# Altium footprint library IFBpcblib.PcbLib: 127 footprints (part 2 of 8)
Each footprint in its own frame and in the unit in brackets; x right, y up, seen from the top. Pads: shape width x height; smd on the part's side, far side on the other; paste and mask are expansions set on the pad; w line width, h text height; cw(c..) or ccw(c..) is an arc to the next point about the centre after c.
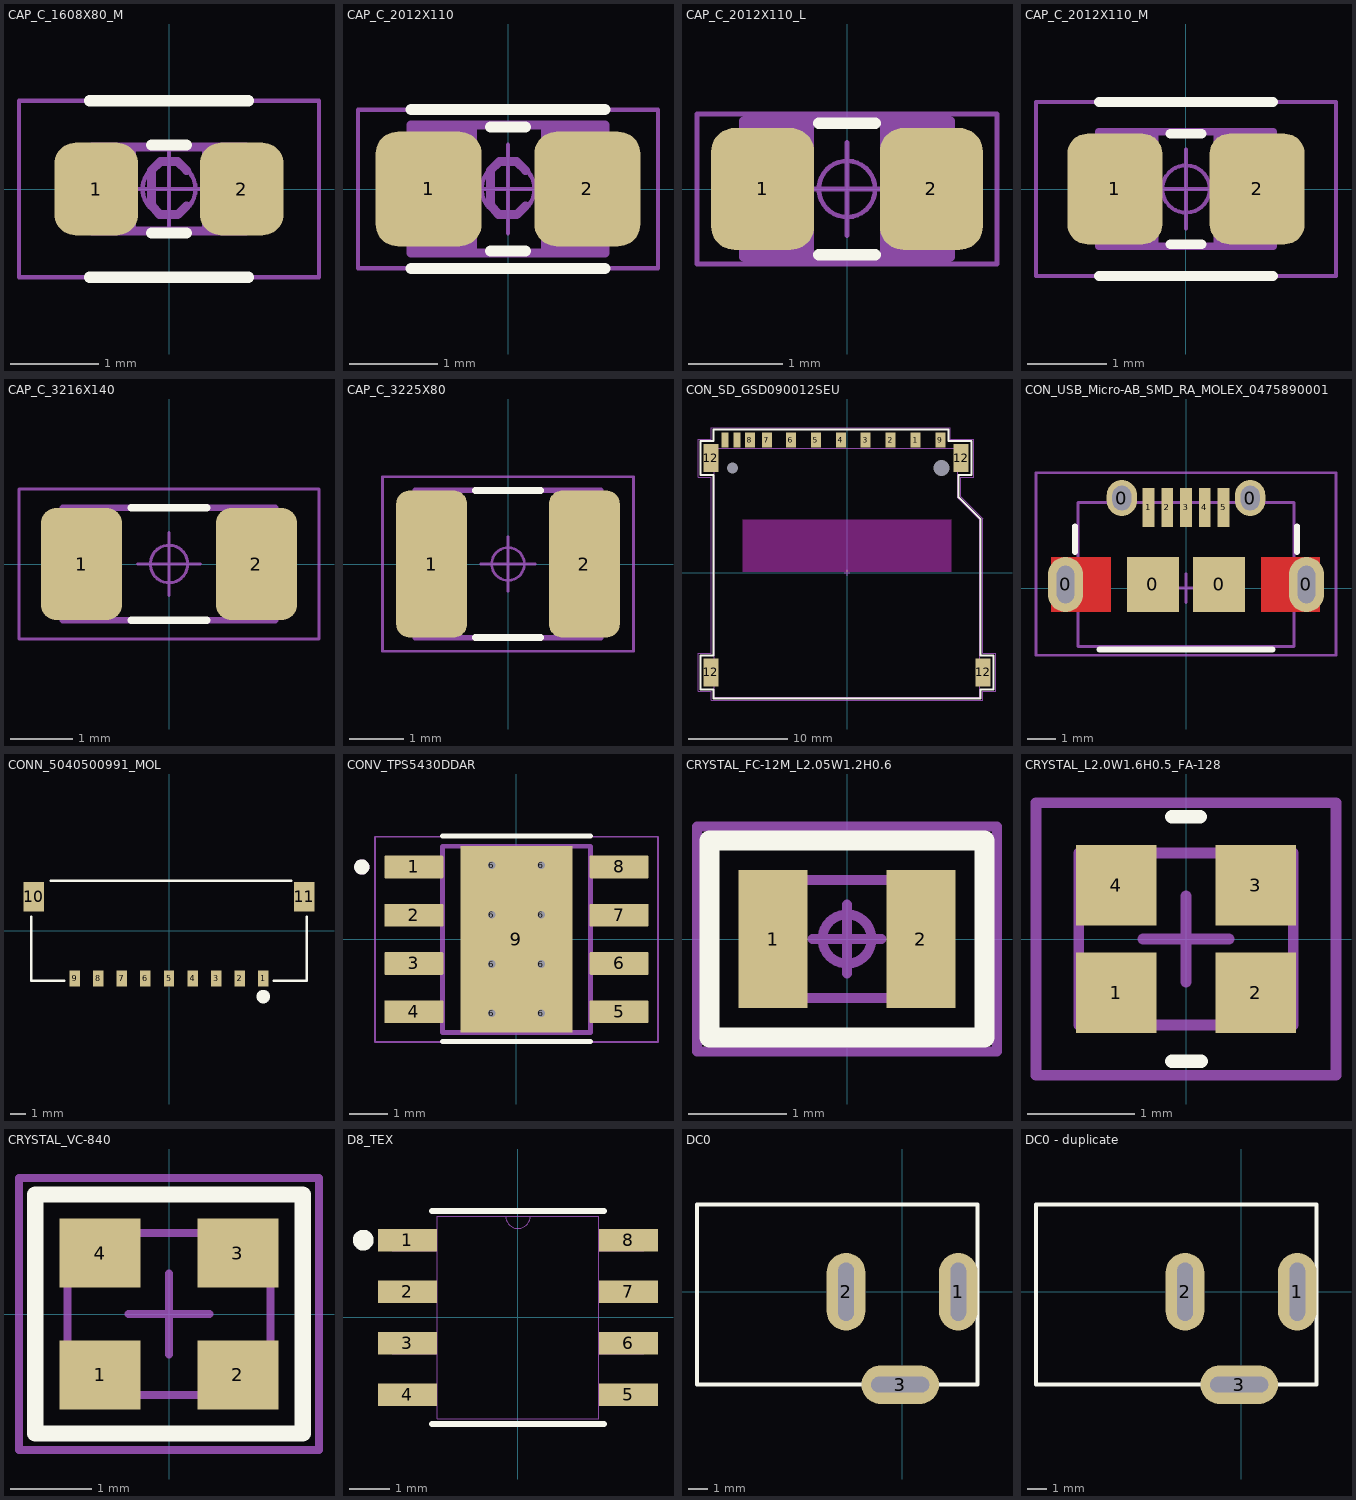
[diagram p1: the footprints below, top view; thin cyan lines are the x and y axes]

## CAP_C_1608X80_M [mm] "Chip Capacitor, 2-Leads, Body 1.60x0.80mm, IPC Low Density"
height 0.85
pads (2):
  rrect50% 0.95x1.05 smd: 1(-0.825,0) 2(0.825,0)
Top Overlay:
  lines w0.125: -0.9,-1 0.9,-1 ; -0.9,1 0.9,1 ; -0.2,-0.5 0.2,-0.5 ; -0.2,0.5 0.2,0.5
Top Assembly:
  lines w0.1: -0.875,-0.475 -0.875,0.475 0.875,0.475 0.875,-0.475 -0.875,-0.475
  text "'.Designator'" at -4.217,-0.663 h1.6
Top Courtyard:
  lines w0.05: -1.7,-1 1.7,-1 1.7,1 -1.7,1 -1.7,-1
  lines w0.1: 0.2,-0.19 0.1,-0.29 -0.11,-0.29 -0.2,-0.18 -0.2,0.21 -0.1,0.31 0.1,0.31 0.2,0.21
Top Component Outline:
  rectangle: 0.375,-0.475 0.875,0.475
  rectangle: -0.875,-0.475 -0.375,0.475
  lines w0.05: -0.875,-0.475 0.875,-0.475 0.875,0.475 -0.875,0.475 -0.875,-0.475
Top Component Center:
  circle w0.05: c0,0 r0.3
  lines w0.05: -0.5,0 0.5,0 ; 0,-0.5 0,0.5
3D body "CAPC1608X80_M.step": height 0.85, standoff 0, extent -0.875,-0.475 0.875,0.475

## CAP_C_2012X110 [mm] "Chip Capacitor, 2-Leads, Body 2.00x1.25mm, IPC High Density"
height 1.1
pads (2):
  rrect41% 1.2x1.3 smd: 1(-0.9,0) 2(0.9,0)
Top Overlay:
  lines w0.125: -1.1,-0.9 1.1,-0.9 ; -1.1,0.9 1.1,0.9 ; -0.2,-0.7 0.2,-0.7 ; -0.2,0.7 0.2,0.7
Top Assembly:
  lines w0.1: -1.1,-0.725 -1.1,0.725 1.1,0.725 1.1,-0.725 -1.1,-0.725
  text "'.Designator'" at -3.952,-0.622 h1.5
Top Courtyard:
  lines w0.05: -1.7,-0.9 1.7,-0.9 1.7,0.9 -1.7,0.9 -1.7,-0.9
  lines w0.1: 0.2,-0.19 0.1,-0.29 -0.11,-0.29 -0.2,-0.18 -0.2,0.21 -0.1,0.31 0.1,0.31 0.2,0.21
Top Component Outline:
  rectangle: 0.375,-0.725 1.125,0.725
  rectangle: -1.1,-0.725 -0.35,0.725
  lines w0.05: -1.1,-0.725 1.1,-0.725 1.1,0.725 -1.1,0.725 -1.1,-0.725
Top Component Center:
  circle w0.05: c0,0 r0.3
  lines w0.05: -0.5,0 0.5,0 ; 0,-0.5 0,0.5
3D body "CAPC2012X110.step": height 1.1, standoff 0, extent -1.1,-0.725 1.1,0.725

## CAP_C_2012X110_L [mm] "Chip Capacitor, 2-Leads, Body 2.00x1.25mm, IPC High Density"
height 1.1
pads (2):
  rrect45% 1.1x1.3 smd: 1(-0.9,0) 2(0.9,0)
Top Overlay:
  lines w0.125: -0.3,-0.7 0.3,-0.7 ; -0.3,0.7 0.3,0.7
Top Assembly:
  lines w0.1: -1.1,-0.725 -1.1,0.725 1.1,0.725 1.1,-0.725 -1.1,-0.725
  text "'.Designator'" at -3.952,-0.622 h1.5
Top Courtyard:
  lines w0.05: -1.6,-0.8 -1.6,0.8 1.6,0.8 1.6,-0.8 -1.6,-0.8
Top Component Outline:
  region: 1.1,0.725 0.35,0.725 0.35,-0.725 1.1,-0.725
  rectangle: -1.1,-0.725 -0.35,0.725
  lines w0.05: -1.1,-0.725 -1.1,0.725 1.1,0.725 1.1,-0.725 -1.1,-0.725
Top Component Center:
  circle w0.05: c0,0 r0.3
  lines w0.05: -0.5,0 0.5,0 ; 0,-0.5 0,0.5
3D body "CAPC2012X110_L.step": height 1.1, standoff 0, extent -1.1,-0.725 1.1,0.725

## CAP_C_2012X110_M [mm] "Chip Capacitor, 2-Leads, Body 2.00x1.25mm, IPC High Density"
height 1.1
pads (2):
  rrect41% 1.2x1.4 smd: 1(-0.9,0) 2(0.9,0)
Top Overlay:
  lines w0.125: -1.1,-1.1 1.1,-1.1 ; -1.1,1.1 1.1,1.1 ; -0.2,-0.7 0.2,-0.7 ; -0.2,0.7 0.2,0.7
Top Assembly:
  lines w0.1: -1.1,-0.725 -1.1,0.725 1.1,0.725 1.1,-0.725 -1.1,-0.725
  text "'.Designator'" at -3.952,-0.622 h1.5
Top Courtyard:
  lines w0.05: -1.9,-1.1 -1.9,1.1 1.9,1.1 1.9,-1.1 -1.9,-1.1
Top Component Outline:
  region: 1.1,0.725 0.35,0.725 0.35,-0.725 1.1,-0.725
  rectangle: -1.1,-0.725 -0.35,0.725
  lines w0.05: -1.1,-0.725 -1.1,0.725 1.1,0.725 1.1,-0.725 -1.1,-0.725
Top Component Center:
  circle w0.05: c0,0 r0.3
  lines w0.05: -0.5,0 0.5,0 ; 0,-0.5 0,0.5
3D body "CAPC2012X110_M.step": height 1.1, standoff 0, extent -1.1,-0.725 1.1,0.725

## CAP_C_3216X140 [mm] "Chip Capacitor, 2-Leads, Body 3.20x1.60mm, IPC High Density"
height 1.35
pads (2):
  rrect38% 1.3x1.8 smd: 1(-1.4,0) 2(1.4,0)
Top Overlay:
  lines w0.125: -0.6,-0.9 0.6,-0.9 ; -0.6,0.9 0.6,0.9
Top Assembly:
  lines w0.1: -1.7,-0.9 -1.7,0.9 1.7,0.9 1.7,-0.9 -1.7,-0.9
  text "'.Designator'" at -3.952,-0.622 h1.5
Top Courtyard:
  lines w0.05: -2.4,-1.2 -2.4,1.2 2.4,1.2 2.4,-1.2 -2.4,-1.2
Top Component Outline:
  rectangle: -1.7,-0.9 -0.95,0.9
  region: 1.7,0.9 0.95,0.9 0.95,-0.9 1.7,-0.9
  lines w0.05: -1.7,-0.9 1.7,-0.9 1.7,0.9 -1.7,0.9 -1.7,-0.9
Top Component Center:
  circle w0.05: c0,0 r0.3
  lines w0.05: -0.5,0 0.5,0 ; 0,-0.5 0,0.5
3D body "CAPC3216X140.step": height 1.35, standoff 0, extent -1.7,-0.9 1.7,0.9

## CAP_C_3225X80 [mm] "Chip Capacitor, 2-Leads, Body 3.20x2.50mm, IPC Medium Density"
height 0.75
pads (2):
  rrect38% 1.3x2.7 smd: 1(-1.4,0) 2(1.4,0)
Top Overlay:
  lines w0.125: -0.6,-1.35 0.6,-1.35 ; -0.6,1.35 0.6,1.35
Top Assembly:
  lines w0.1: -1.7,-1.35 -1.7,1.35 1.7,1.35 1.7,-1.35 -1.7,-1.35
  text "'.Designator'" at -3.952,-0.622 h1.5
Top Courtyard:
  lines w0.05: -2.3,-1.6 2.3,-1.6 2.3,1.6 -2.3,1.6 -2.3,-1.6
Top Component Outline:
  rectangle: -1.7,-1.35 -0.95,1.35
  region: 1.7,1.35 0.95,1.35 0.95,-1.35 1.7,-1.35
  lines w0.05: -1.7,-1.35 1.7,-1.35 1.7,1.35 -1.7,1.35 -1.7,-1.35
Top Component Center:
  circle w0.05: c0,0 r0.3
  lines w0.05: -0.5,0 0.5,0 ; 0,-0.5 0,0.5
3D body "CAPC3225X80.step": height 0.75, standoff 0, extent -1.7,-1.35 1.7,1.35

## CON_SD_GSD090012SEU [mm]
pads (17):
  rect 1x1.5 smd mask+0.05: 1(6.875,13.3) 2(4.375,13.3) 3(1.875,13.3) 4(-0.625,13.3) 5(-3.125,13.3) 6(-5.625,13.3) 7(-8.05,13.3) 8(-9.75,13.3) 9(9.375,13.3)
  round 0 hole 1.1 unplated mask+0.05: 1.5mm(-11.5,10.5)
  round 0 hole 1.6 unplated mask+0.05: 1.5mm(9.5,10.5)
  rect 0.7x1.5 smd mask+0.05: 10(-11.05,13.3) 11(-12.25,13.3)
  rect 1.5x2.8 smd mask+0.05: 12(-13.65,-10) 12(-13.65,11.5) 12(11.45,11.5) 12(13.65,-10)
Top Layer keep-out:
  rectangle: -10.5,0.05 10.5,5.35
Top Overlay:
  lines w0.2: -14.7,-11.7 -14.7,-8.3 -13.4,-8.3 -13.4,9.8 -14.7,9.8 -14.7,13.2 -13.4,13.2 -13.4,14.35 10.175,14.35 10.175,13.2 12.5,13.2 12.5,9.8 11.2,9.8 11.2,7.55 13.4,5.35 13.4,5.3 13.4,-8.3 14.7,-8.3 14.7,-11.7 13.4,-11.7 13.4,-12.6 -13.4,-12.6 -13.4,-11.7 -14.7,-11.7
Top Assembly:
  lines w0.1: -13.3,-12.5 -13.3,12.5 11.1,12.5 11.1,7.5 13.3,5.3 13.3,-12.5 -13.3,-12.5
Top Courtyard:
  lines w0.1: -0.3,0 0.3,0 ; 0,-0.3 0,0.3 ; -14.9,-11.9 -14.9,-8.1 -13.6,-8.1 -13.6,9.6 -14.9,9.6 -14.9,13.4 -14.25,13.4 -13.6,13.4 -13.6,14.125 -13.6,14.55 10.375,14.55 10.375,13.4 12.7,13.4 12.7,9.6 11.4,9.6 11.4,7.625 11.425,7.6 13.6,5.425 13.6,-8.1 14.9,-8.1 14.9,-11.9 13.6,-11.9 13.6,-12.8 -13.6,-12.8 -13.6,-11.9 -14.9,-11.9
3D body "GSD090012SEU.stp": height 3.3, standoff -0.8, extent -14.075,-12.5 14.025,13.75

## CON_USB_Micro-AB_SMD_RA_MOLEX_0475890001 [mm] "Connector, Receptacle, Micro-USB Type AB, R/A, SMT"
height 2.96
pads (11):
  oval 1.225x1.9 hole 0.6 slot 1.3 at 90 deg: 0(-4.175,0.127) 0(4.175,0.127)
  oval 1.05x1.25 hole 0.65 slot 0.85 at 90 deg mask+0.05: 0(-2.225,3.125) 0(2.225,3.125)
  rect 1.8x1.9 smd: 0(-1.15,0.127) 0(1.15,0.127)
  rect 0.4x1.35 smd mask+0.05: 1(-1.3,2.8) 2(-0.65,2.8) 3(0,2.8) 4(0.65,2.8) 5(1.3,2.8)
Top Layer:
  region: 4.65,1.077 2.6,1.077 2.6,-0.823 4.65,-0.823
  rectangle: -4.675,-0.823 -2.6,1.077
Top Overlay:
  lines w0.2: -3.85,1.25 -3.85,2.15 ; -3,-2.125 3,-2.125 ; 3.85,1.25 3.85,2.15
  text "." at -1.524,4.191 h1
Top Assembly:
  lines w0.1: -3.75,-2.025 3.75,-2.025 3.75,2.975 -3.75,2.975 -3.75,-2.025
  text "1" at -1.5,1.775 h1
  text ".Designator" at -4,-0.5 h1
Top Courtyard:
  lines w0.1: -0.5,0 0.5,0 ; 0,-0.5 0,0.5 ; -5.2,-2.325 5.2,-2.325 5.2,4 -5.2,4 -5.2,-2.325
3D body "475890001.stp": height 2.76, standoff -0.55, extent -4.318,-2.566 4.332,3.328

## CONN_5040500991_MOL [mil]
pads (11):
  rect 26x41 smd paste+0 mask+0: 1(236.22,-120) 2(177.17,-120) 3(118.11,-120) 4(59.06,-120) 5(0,-120) 6(-59.06,-120) 7(-118.11,-120) 8(-177.17,-120) 9(-236.22,-120)
  rect 51x73 smd paste+0 mask+0: 10(-338.78,84.33) 11(338.78,84.33)
Top Overlay:
  circle w30: c236.22,-165.24 r2
  lines w6: -344.5,34.73 -344.5,-125.24 -262.32,-125.24 ; -295.78,124.76 305.78,124.76 ; 262.32,-125.24 344.5,-125.24 344.5,34.73
3D body "5040500991.stp": height 78.74, standoff 0, extent -355.31,-130 355.31,123.54

## CONV_TPS5430DDAR [mm] "IC REG BUCK ADJ 3A 8SOPWR"
pads (17):
  rrect10% 1.55x0.6 smd mask+0: 1(-2.7,1.905) 2(-2.7,0.635) 3(-2.7,-0.635) 4(-2.7,-1.905) 5(2.7,-1.905) 6(2.7,-0.635) 7(2.7,0.635) 8(2.7,1.905)
  round 0.3 hole 0.2 mask+0: 6(-0.65,-1.95) 6(-0.65,-0.65) 6(-0.65,0.65) 6(-0.65,1.95) 6(0.65,-1.95) 6(0.65,-0.65) 6(0.65,0.65) 6(0.65,1.95)
  rect 2.95x4.9 smd paste+0: 9(0,0)
Top Overlay:
  circle w0.2: c-4.07,1.905 r0.1
  lines w0.127: -1.944,-2.692 1.956,-2.692 ; -1.944,2.718 1.956,2.718
Top Paste:
  region: 1.3,-1.55 -1.3,-1.55 -1.3,1.55 1.3,1.55
Top Solder:
  drawing of 9 lines, arcs and shapes, not listed
Mechanical 13:
  circle w0.2: c-4.07,1.905 r0.1
  lines w0.127: -1.95,-2.45 -1.95,2.45 1.95,2.45 1.95,-2.45 -1.95,-2.45
Mechanical 15:
  lines w0.05: -3.725,-2.7 -3.725,2.7 3.725,2.7 3.725,-2.7 -3.725,-2.7
3D body "step_temp.STEP": height 1.7, standoff 0, extent -3,-2.45 3,2.45

## CRYSTAL_FC-12M_L2.05W1.2H0.6 [mm] "CRYSTAL 32.768KHZ 12.5PF SMD"
height 0.6
pads (2):
  rect 0.7x1.4 smd mask+0: 1(-0.75,0) 2(0.75,0)
Top Overlay:
  lines w0.2: -1.397,-1 1.397,-1 1.397,1 -1.397,1 -1.397,-1
Top Assembly:
  lines w0.1: -1.025,-0.6 -1.025,0.6 1.025,0.6 1.025,-0.6 -1.025,-0.6
Top Courtyard:
  circle w0.1: c0,0 r0.25
  lines w0.1: -0.35,0 0.35,0 ; 0,-0.35 0,0.35 ; -1.524,-1.143 1.524,-1.143 1.524,1.143 -1.524,1.143 -1.524,-1.143
Top 3D Body:
  lines w0.1: -1.025,-0.6 1.025,-0.6 1.025,0.6 -1.025,0.6 -1.025,-0.6
3D body "FC-12M 32.7680KA-A5.STEP": height 0.6, standoff 0, extent -1.025,-0.6 1.025,0.6

## CRYSTAL_L2.0W1.6H0.5_FA-128 [mm]
height 0.5
pads (4):
  rect 0.75x0.75 smd: 1(-0.65,-0.5) 2(0.65,-0.5) 3(0.65,0.5) 4(-0.65,0.5)
Top Overlay:
  lines w0.127: -0.13,-1.14 0.14,-1.14 ; -0.13,1.14 0.13,1.14
  text "." at -1.02,-1.23 h0.3
Top Assembly:
  lines w0.1: -1,-0.8 -1,0.8 1,0.8 1,-0.8 -1,-0.8
Top Courtyard:
  lines w0.1: -0.4,0 0.4,0 ; 0,-0.4 0,0.4 ; -1.397,-1.27 1.397,-1.27 1.397,1.27 -1.397,1.27 -1.397,-1.27
3D body "ABM11.step": height 0.59, standoff 0, extent -1,-0.8 1,0.8

## CRYSTAL_VC-840 [mm] "L=2.5mm, W=2.0mm, H=0.8mm"
height 0.8
pads (4):
  rect 1x0.85 smd: 1(-0.85,-0.75) 2(0.85,-0.75) 3(0.85,0.75) 4(-0.85,0.75)
Top Overlay:
  lines w0.2: -1.65,-1.475 -1.65,1.475 1.65,1.475 1.65,-1.475 -1.65,-1.475
  text "." at -1.575,-2.075 h1
Top Assembly:
  lines w0.1: -1.25,-1 -1.25,1 1.25,1 1.25,-1 -1.25,-1
Top Courtyard:
  lines w0.1: -0.5,0 0.5,0 ; 0,-0.5 0,0.5 ; -1.85,-1.675 -1.85,1.675 1.85,1.675 1.85,-1.675 -1.85,-1.675
3D body "2520_crystal.step": height 0.55, standoff 0, extent -1.3,-1.05 1.3,1.05

## D8_TEX [mil]
pads (8):
  rect 57.5x22 smd paste+0 mask+0: 1(-107.25,75) 2(-107.25,25) 3(-107.25,-25) 4(-107.25,-75) 5(107.25,-75) 6(107.25,-25) 7(107.25,25) 8(107.25,75)
Top Overlay:
  circle w10: c-150.2,75.07 r5.07
  lines w6: -83.5,-103.5 83.5,-103.5 ; -83.5,103.5 83.5,103.5
Mechanical 13:
  lines w1: -12,98.5 ccw(c0,98.5) 12,98.5 ; -122,-85 -122,-65 -78.5,-65 -78.5,-85 -122,-85 ; -122,-35 -122,-15 -78.5,-15 -78.5,-35 -122,-35 ; -122,15 -122,35 -78.5,35 -78.5,15 -122,15 ; -122,65 -122,85 -78.5,85 -78.5,65 -122,65 ; -78.5,-98.5 78.5,-98.5 78.5,98.5 -78.5,98.5 -78.5,-98.5 ; 78.5,-85 78.5,-65 122,-65 122,-85 78.5,-85 ; 78.5,-35 78.5,-15 122,-15 122,-35 78.5,-35 ; 78.5,15 78.5,35 122,35 122,15 78.5,15 ; 78.5,65 78.5,85 122,85 122,65 78.5,65
3D body "D8_TEX.step": height 69.09, standoff 0, extent -122.01,-98.5 122.01,98.5

## DC0 [mm] "Jac DC input"
height 5.08
pads (3):
  oval 2x4 hole 0.8 slot 3 at 90 deg: 1(2.9,0) 2(-2.9,0)
  oval 4x2 hole 0.8 slot 3 at 0 deg: 3(-0.1,-4.8)
Top Overlay:
  lines w0.2: -2.1,-4.8 -10.6,-4.8 -10.6,4.5 3.9,4.5 3.9,-4.8 1.9,-4.8
3D body "694106301002.stp": height 10.7, standoff -3.8, extent -10.6,-4.9 3.9,4.5

## DC0 - duplicate [mm] "Jac DC input"
height 5.08
pads (3):
  oval 2x4 hole 0.8 slot 3 at 90 deg: 1(2.9,0) 2(-2.9,0)
  oval 4x2 hole 0.8 slot 3 at 0 deg: 3(-0.1,-4.8)
Top Overlay:
  lines w0.2: -2.1,-4.8 -10.6,-4.8 -10.6,4.5 3.9,4.5 3.9,-4.8 1.9,-4.8
3D body "694106301002.stp": height 10.7, standoff -3.8, extent -10.6,-4.9 3.9,4.5